# EAGLE library part DIP-BLACK-FEMALE-HEADER-R/A(8P-2.54-90D) (library Seeed-OPL-Connector)
320030076
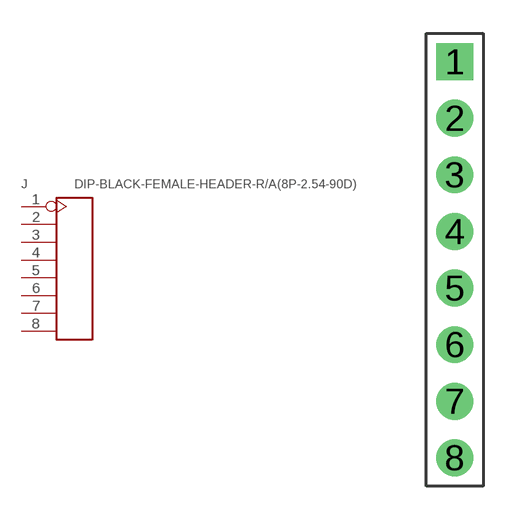
[diagram p33: symbol with the pads of H8-2.54-90D-FEMALE; footprint H8-2.54-90D-FEMALE]

Designator prefix J

## DIP-BLACK-FEMALE-HEADER-R/A(8P-2.54-90D) (VALUE: 8p-2.54-90d)  [H8-2.54-90D-FEMALE]
1  1
2  2
3  3
4  4
5  5
6  6
7  7
8  8

## Footprint H8-2.54-90D-FEMALE (pad centres in mm)
drill 0.889 pad 1.651 square: 1 0,8.89
drill 0.889 pad 1.651: 2 0,6.35; 3 0,3.81; 4 0,1.27; 5 0,-1.27; 6 0,-3.81; 7 0,-6.35; 8 0,-8.89